# EAGLE library part CON8P1R (library ads4)
8-pin single-row connector
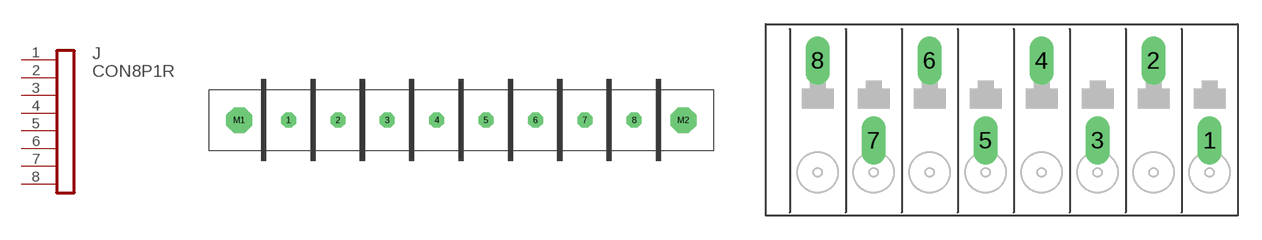
[diagram p45: symbol with the pads of 38720-6208; footprints 38720-6208, 1985250]

Designator prefix J

## CON8P1R38720-6208  [38720-6208]
1  1
2  2
3  3
4  4
5  5
6  6
7  7
8  8

## CON8P1R1985250  [1985250]
Pads as for 38720-6208

## CON8P1R1990067  [1990067]
Pads as for 38720-6208

## CON8P1R33MILHOLE_OCTAGON  [CON8P1R_33MILHOLE_OCTAGON]
Pads as for 38720-6208

## Footprint 38720-6208 (pad centres in mm)
Molex 8-pin single-row barrier terminal block Part #38720-6208
drill 1.93 octagon: 1 15.325,5.95; 2 24.85,5.95; 3 34.375,5.95; 4 43.9,5.95; 5 53.425,5.95; 6 62.95,5.95; 7 72.475,5.95; 8 82,5.95
drill 3.96 octagon: M1 5.8,5.95; M2 91.5,5.95

## Footprint 1985250 (pad centres in mm)
Phoenix Contact 1985250 8-position 3.5mm terminal block 13.1mm tall
drill 1 long: 1 12.25,-2.5; 2 8.75,2.5; 3 5.25,-2.5; 4 1.75,2.5; 5 -1.75,-2.5; 6 -5.25,2.5; 7 -8.75,-2.5; 8 -12.25,2.5

## Footprint 1990067 (pad centres in mm)
Phoenix Contact 1990067 8-position 2.5mm terminal block 13.1mm tall
drill 1 long: 1 8.75,-2.5; 2 6.25,2.5; 3 3.75,-2.5; 4 1.25,2.5; 5 -1.25,-2.5; 6 -3.75,2.5; 7 -6.25,-2.5; 8 -8.75,2.5

## Footprint CON8P1R_33MILHOLE_OCTAGON (pad centres in mm)
8-pin 0.1" header with 0.035" drill holes, octagonal pads
drill 0.889 octagon: 1 0,8.89; 2 0,6.35; 3 0,3.81; 4 0,1.27; 5 0,-1.27; 6 0,-3.81; 7 0,-6.35; 8 0,-8.89